# Altium footprint library PcbLib.PcbLib: 3 footprints
Each footprint in its own frame and in the unit in brackets; x right, y up, seen from the top. Pads: shape width x height; smd on the part's side, far side on the other; paste and mask are expansions set on the pad; w line width, h text height; cw(c..) or ccw(c..) is an arc to the next point about the centre after c.
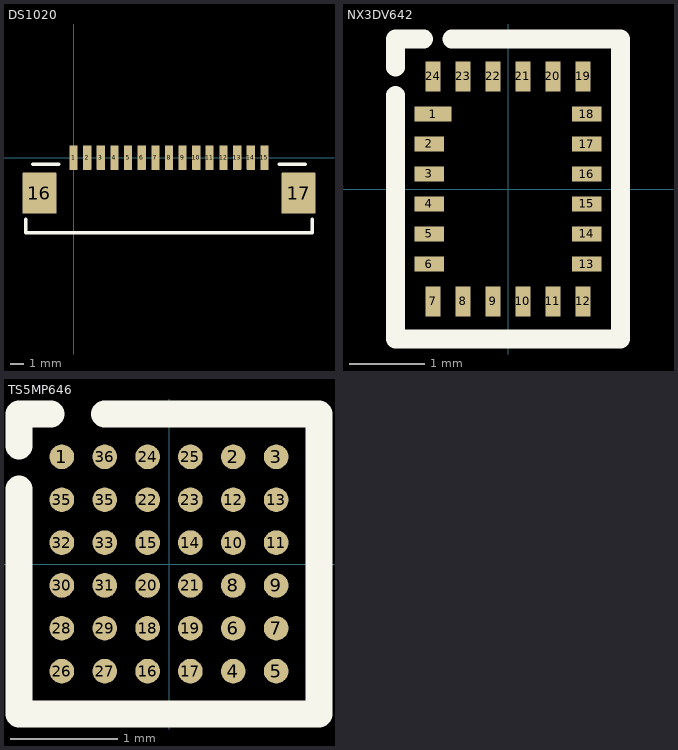
[diagram p0: the footprints below, top view; thin cyan lines are the x and y axes]

## DS1020 [mm]
pads (17):
  rrect10% 0.6x1.8 smd mask+0.05: 1(0,0) 2(1,0) 3(2,0) 4(3,0) 5(4,0) 6(5,0) 7(6,0) 8(7,0) 9(8,0) 10(9,0) 11(9.971,-0.023) 12(11,0) 13(12,0) 14(13,0) 15(14,0)
  rrect5% 2.5x3 smd: 16(-2.5,-2.6) 17(16.5,-2.6)
Top Overlay:
  lines w0.254: -3.5,-4.5 -3.5,-5.5 17.5,-5.5 17.5,-4.5 ; -3,-0.5 -1.1,-0.5 ; 15.1,-0.5 17,-0.5

## NX3DV642 [mm]
pads (24):
  rrect10% 0.5x0.2 smd mask+0.05: 1(-1,1)
  rrect10% 0.4x0.2 smd mask+0.05: 2(-1.05,0.6) 3(-1.05,0.2) 4(-1.05,-0.2) 5(-1.05,-0.6) 6(-1.05,-1) 13(1.05,-1) 14(1.05,-0.6) 15(1.05,-0.2) 16(1.05,0.2) 17(1.05,0.6) 18(1.05,1)
  rrect10% 0.2x0.4 smd mask+0.05: 7(-1,-1.5) 8(-0.6,-1.5) 9(-0.2,-1.5) 10(0.2,-1.5) 11(0.6,-1.5) 12(1,-1.5) 19(1,1.5) 20(0.6,1.5) 21(0.2,1.5) 22(-0.2,1.5) 23(-0.6,1.5) 24(-1,1.5)
Top Overlay:
  lines w0.25: -1.5,1.25 -1.5,-2 1.5,-2 1.5,2 -0.75,2 ; -1.5,1.625 -1.5,2 -1.125,2

## TS5MP646 [mm]
pads (36):
  round 0.23 smd mask+0.02: 1(-1,1) 2(0.6,1) 3(1,1) 4(0.6,-1) 5(1,-1) 6(0.6,-0.6) 7(1,-0.6) 8(0.6,-0.2) 9(1,-0.2) 10(0.6,0.2) 11(1,0.2) 12(0.6,0.6) 13(1,0.6) 14(0.2,0.2) 15(-0.2,0.2) 16(-0.2,-1) 17(0.2,-1) 18(-0.2,-0.6) 19(0.2,-0.6) 20(-0.2,-0.2) 21(0.2,-0.2) 22(-0.2,0.6) 23(0.2,0.6) 24(-0.2,1) 25(0.2,1) 26(-1,-1) 27(-0.6,-1) 28(-1,-0.6) 29(-0.6,-0.6) 30(-1,-0.2) 31(-0.6,-0.2) 32(-1,0.2) 33(-0.6,0.2) 35(-1,0.6) 35(-0.6,0.6) 36(-0.6,1)
Top Overlay:
  lines w0.254: -1.4,0.7 -1.4,-1.4 1.4,-1.4 1.4,1.4 -0.6,1.4 ; -1.4,1.1 -1.4,1.4 -1.1,1.4
3D body "TS5MP646.STEP": height 0.47, standoff -0.01, extent -1.2,-1.2 1.2,1.2